# EAGLE library part SC74LVC1G19 (library texas-instruments)
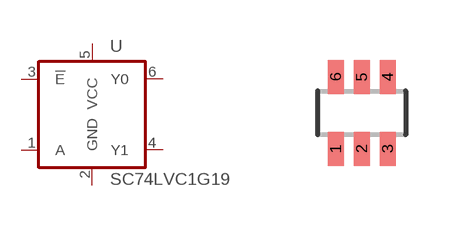
[diagram p32: symbol with the pads of SOT363; footprint SOT363]

Designator prefix U

## SC74LVC1G19DCK (DIGIKEY: 296-17991-1-ND; P1I: o)  [SOT363]
1  A  pwr
2  GND
3  !E  in
4  Y1  pas
5  VCC
6  Y0  pas

## Footprint SOT363 (pad centres in mm)
Small Outline Transistor; 6 leads
smd 0.4 x 0.85: 1 -0.65,-0.9; 2 0,-0.9; 3 0.65,-0.9; 4 0.65,0.9; 5 0,0.9; 6 -0.65,0.9